# Altium footprint library DO214AC.PcbLib: 1 footprints
Each footprint in its own frame and in the unit in brackets; x right, y up, seen from the top. Pads: shape width x height; smd on the part's side, far side on the other; paste and mask are expansions set on the pad; w line width, h text height; cw(c..) or ccw(c..) is an arc to the next point about the centre after c.
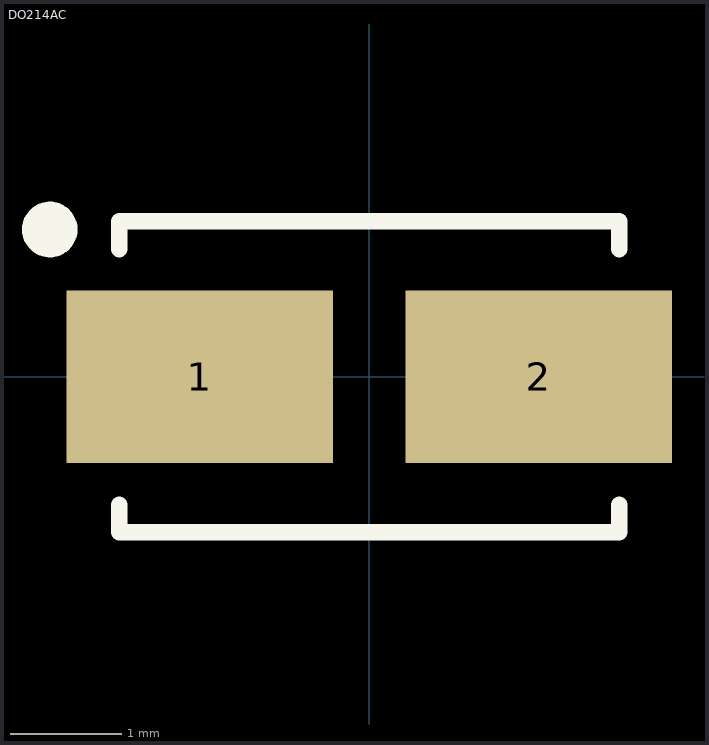
[diagram p0: the footprint, top view; thin cyan lines are the x and y axes]

## DO214AC [mm] "Molded Diode, 2-Leads, Body 4,25x2,67mm, IPC Medium Density"
height 2.29
pads (2):
  rect 2.4x1.55 smd: 1(-1.525,0) 2(1.525,0)
Top Overlay:
  circle w0.25: c-2.875,1.325 r0.125
  lines w0.15: -2.25,-1.15 -2.25,-1.4 2.25,-1.4 2.25,-1.15 ; -2.25,1.15 -2.25,1.4 2.25,1.4 2.25,1.15
3D body "DO214AC.step": height 2.29, standoff 0, extent -2.47,-1.395 2.47,1.395